# Altium schematic symbol library WCAP-CSSA.SchLib: 19 symbols
Pins are listed as number, name and electrical type; pins without a type are passive.

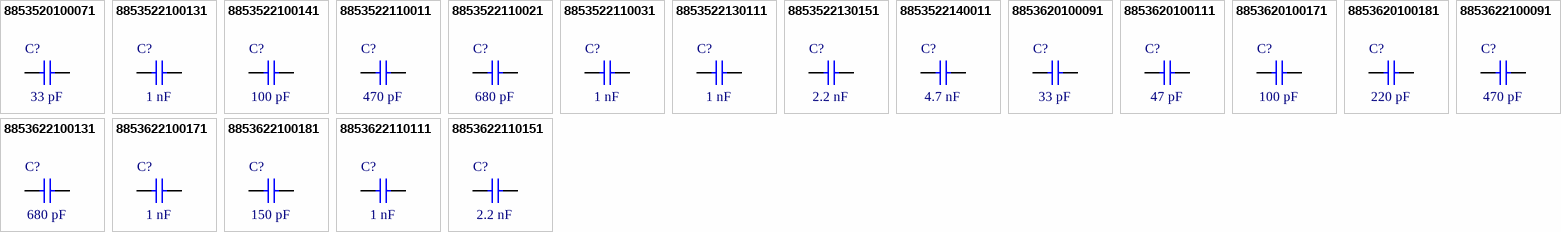
[diagram p0: symbols 8853520100071 to 8853622110151]

## 8853520100071
designator C?, comment 33 pF
WCAP-CSSA Multilayer Ceramic Chip Safety Capacitor, SMT, size 1808, NP0 Class I, 33 pF, 250 V (AC); Manufacturer Part Number: 8853520100071; Manufacturer: Wurth Elektronik; Case/Size Code: 1808; Capacitance Tolerance: ±5%; Dissipation Factor: 0.1%; Impulse Voltage: 5000 V (DC); Insulation Resistance: 100 GΩ; Safety Class: X1 / Y2; Category: Multilayer Ceramic Chip Capacitors; Match Code: WCAP-CSSA; ComponentLink1Description: Website Link; ComponentLink1URL: https://www.we-online.com/redexpert/article/8853520100071?ad; ComponentLink2Description: Datasheet Link; ComponentLink2URL: https://www.we-online.com/redexpert/spec/8853520100071?ad; Mount: Surface Mount; Min Operating Temperature: -55 °C; Max Operating Temperature: 125 °C; Packaging: Tape and Reel; Length: 4.5 mm; Width: 2 mm; Height: 1.4 mm; Capacitance: 33 pF; Ceramic Type: NP0 Class I; Rated Voltage: 250 V (AC)
footprint WCAP-CSSA_1808_8853520100071
simulation model 1808_8853520100071_33pF
pins: 1, 2

## 8853522100131
designator C?, comment 1 nF
WCAP-CSSA Multilayer Ceramic Chip Safety Capacitor, SMT, size 1808, X7R Class II, 1 nF, 250 V (AC); Manufacturer Part Number: 8853522100131; Manufacturer: Wurth Elektronik; Case/Size Code: 1808; Capacitance Tolerance: ±10%; Dissipation Factor: 2.5%; Impulse Voltage: 5000 V (DC); Insulation Resistance: 10 GΩ; Safety Class: X1 / Y2; Category: Multilayer Ceramic Chip Capacitors; Match Code: WCAP-CSSA; ComponentLink1Description: Website Link; ComponentLink1URL: https://www.we-online.com/redexpert/article/8853522100131?ad; ComponentLink2Description: Datasheet Link; ComponentLink2URL: https://www.we-online.com/redexpert/spec/8853522100131?ad; Mount: Surface Mount; Min Operating Temperature: -55 °C; Max Operating Temperature: 125 °C; Packaging: Tape and Reel; Length: 4.5 mm; Width: 2 mm; Height: 2 mm; Capacitance: 1 nF; Ceramic Type: X7R Class II; Rated Voltage: 250 V (AC)
footprint WCAP-CSSA_1808_8853522100131
simulation model 1808_8853522100131_1nF
pins: 1, 2

## 8853522100141
designator C?, comment 100 pF
WCAP-CSSA Multilayer Ceramic Chip Safety Capacitor, SMT, size 1808, X7R Class II, 100 pF, 250 V (AC); Manufacturer Part Number: 8853522100141; Manufacturer: Wurth Elektronik; Case/Size Code: 1808; Capacitance Tolerance: ±10%; Dissipation Factor: 2.5%; Impulse Voltage: 5000 V (DC); Insulation Resistance: 10 GΩ; Safety Class: X1 / Y2; Category: Multilayer Ceramic Chip Capacitors; Match Code: WCAP-CSSA; ComponentLink1Description: Website Link; ComponentLink1URL: https://www.we-online.com/redexpert/article/8853522100141?ad; ComponentLink2Description: Datasheet Link; ComponentLink2URL: https://www.we-online.com/redexpert/spec/8853522100141?ad; Mount: Surface Mount; Min Operating Temperature: -55 °C; Max Operating Temperature: 125 °C; Packaging: Tape and Reel; Length: 4.5 mm; Width: 2 mm; Height: 1.6 mm; Capacitance: 100 pF; Ceramic Type: X7R Class II; Rated Voltage: 250 V (AC)
footprint WCAP-CSSA_1808_8853522100141
pins: 1, 2

## 8853522110011
designator C?, comment 470 pF
WCAP-CSSA Multilayer Ceramic Chip Safety Capacitor, SMT, size 1812, X7R Class II, 470 pF, 250 V (AC); Manufacturer Part Number: 8853522110011; Manufacturer: Wurth Elektronik; Case/Size Code: 1812; Capacitance Tolerance: ±10%; Dissipation Factor: 2.5%; Impulse Voltage: 5000 V (DC); Insulation Resistance: 10 GΩ; Safety Class: X1 / Y2; Category: Multilayer Ceramic Chip Capacitors; Match Code: WCAP-CSSA; ComponentLink1Description: Website Link; ComponentLink1URL: https://www.we-online.com/redexpert/article/8853522110011?ad; ComponentLink2Description: Datasheet Link; ComponentLink2URL: https://www.we-online.com/redexpert/spec/8853522110011?ad; Mount: Surface Mount; Min Operating Temperature: -55 °C; Max Operating Temperature: 125 °C; Packaging: Tape and Reel; Length: 4.5 mm; Width: 3.2 mm; Height: 1.6 mm; Capacitance: 470 pF; Ceramic Type: X7R Class II; Rated Voltage: 250 V (AC)
footprint WCAP-CSSA_1812_8853522110011
simulation model 1812_8853522110011_470pF
pins: 1, 2

## 8853522110021
designator C?, comment 680 pF
WCAP-CSSA Multilayer Ceramic Chip Safety Capacitor, SMT, size 1812, X7R Class II, 680 pF, 250 V (AC); Manufacturer Part Number: 8853522110021; Manufacturer: Wurth Elektronik; Case/Size Code: 1812; Capacitance Tolerance: ±10%; Dissipation Factor: 2.5%; Impulse Voltage: 5000 V (DC); Insulation Resistance: 10 GΩ; Safety Class: X1 / Y2; Category: Multilayer Ceramic Chip Capacitors; Match Code: WCAP-CSSA; ComponentLink1Description: Website Link; ComponentLink1URL: https://www.we-online.com/redexpert/article/8853522110021?ad; ComponentLink2Description: Datasheet Link; ComponentLink2URL: https://www.we-online.com/redexpert/spec/8853522110021?ad; Mount: Surface Mount; Min Operating Temperature: -55 °C; Max Operating Temperature: 125 °C; Packaging: Tape and Reel; Length: 4.5 mm; Width: 3.2 mm; Height: 2 mm; Capacitance: 680 pF; Ceramic Type: X7R Class II; Rated Voltage: 250 V (AC)
footprint WCAP-CSSA_1812_8853522110021
simulation model 1812_8853522110021_680pF
pins: 1, 2

## 8853522110031
designator C?, comment 1 nF
WCAP-CSSA Multilayer Ceramic Chip Safety Capacitor, SMT, size 1812, X7R Class II, 1 nF, 250 V (AC); Manufacturer Part Number: 8853522110031; Manufacturer: Wurth Elektronik; Case/Size Code: 1812; Capacitance Tolerance: ±10%; Dissipation Factor: 2.5%; Impulse Voltage: 5000 V (DC); Insulation Resistance: 10 GΩ; Safety Class: X1 / Y2; Category: Multilayer Ceramic Chip Capacitors; Match Code: WCAP-CSSA; ComponentLink1Description: Website Link; ComponentLink1URL: https://www.we-online.com/redexpert/article/8853522110031?ad; ComponentLink2Description: Datasheet Link; ComponentLink2URL: https://www.we-online.com/redexpert/spec/8853522110031?ad; Mount: Surface Mount; Min Operating Temperature: -55 °C; Max Operating Temperature: 125 °C; Packaging: Tape and Reel; Length: 4.5 mm; Width: 3.2 mm; Height: 2.5 mm; Capacitance: 1 nF; Ceramic Type: X7R Class II; Rated Voltage: 250 V (AC)
footprint WCAP-CSSA_1812_8853522110031
simulation model 1812_8853522110031_1nF
pins: 1, 2

## 8853522130111
designator C?, comment 1 nF
WCAP-CSSA Multilayer Ceramic Chip Safety Capacitor, SMT, size 2211, X7R Class II, 1 nF, 250 V (AC); Manufacturer Part Number: 8853522130111; Manufacturer: Wurth Elektronik; Case/Size Code: 2211; Capacitance Tolerance: ±10%; Dissipation Factor: 2.5%; Impulse Voltage: 5000 V (DC); Insulation Resistance: 10 GΩ; Safety Class: X1 / Y2; Category: Multilayer Ceramic Chip Capacitors; Match Code: WCAP-CSSA; ComponentLink1Description: Website Link; ComponentLink1URL: https://www.we-online.com/redexpert/article/8853522130111?ad; ComponentLink2Description: Datasheet Link; ComponentLink2URL: https://www.we-online.com/redexpert/spec/8853522130111?ad; Mount: Surface Mount; Min Operating Temperature: -55 °C; Max Operating Temperature: 125 °C; Packaging: Tape and Reel; Length: 5.7 mm; Width: 2.8 mm; Height: 2.5 mm; Capacitance: 1 nF; Ceramic Type: X7R Class II; Rated Voltage: 250 V (AC)
footprint WCAP-CSSA_2211_8853522130111
simulation model 2211_8853522130111_1nF
pins: 1, 2

## 8853522130151
designator C?, comment 2.2 nF
WCAP-CSSA Multilayer Ceramic Chip Safety Capacitor, SMT, size 2211, X7R Class II, 2.2 nF, 250 V (AC); Manufacturer Part Number: 8853522130151; Manufacturer: Wurth Elektronik; Case/Size Code: 2211; Capacitance Tolerance: ±10%; Dissipation Factor: 2.5%; Impulse Voltage: 5000 V (DC); Insulation Resistance: 10 GΩ; Safety Class: X1 / Y2; Category: Multilayer Ceramic Chip Capacitors; Match Code: WCAP-CSSA; ComponentLink1Description: Website Link; ComponentLink1URL: https://www.we-online.com/redexpert/article/8853522130151?ad; ComponentLink2Description: Datasheet Link; ComponentLink2URL: https://www.we-online.com/redexpert/spec/8853522130151?ad; Mount: Surface Mount; Min Operating Temperature: -55 °C; Max Operating Temperature: 125 °C; Packaging: Tape and Reel; Length: 5.7 mm; Width: 2.8 mm; Height: 2.5 mm; Capacitance: 2.2 nF; Ceramic Type: X7R Class II; Rated Voltage: 250 V (AC)
footprint WCAP-CSSA_2211_8853522130151
simulation model 2211_8853522130151_2.2nF
pins: 1, 2

## 8853522140011
designator C?, comment 4.7 nF
WCAP-CSSA Multilayer Ceramic Chip Safety Capacitor, SMT, size 2220, X7R Class II, 4.7 nF, 250 V (AC); Manufacturer Part Number: 8853522140011; Manufacturer: Wurth Elektronik; Case/Size Code: 2220; Capacitance Tolerance: ±10%; Dissipation Factor: 2.5%; Impulse Voltage: 5000 V (DC); Insulation Resistance: 10 GΩ; Safety Class: X1 / Y2; Category: Multilayer Ceramic Chip Capacitors; Match Code: WCAP-CSSA; ComponentLink1Description: Website Link; ComponentLink1URL: https://www.we-online.com/redexpert/article/8853522140011?ad; ComponentLink2Description: Datasheet Link; ComponentLink2URL: https://www.we-online.com/redexpert/spec/8853522140011?ad; Mount: Surface Mount; Min Operating Temperature: -55 °C; Max Operating Temperature: 125 °C; Packaging: Tape and Reel; Length: 5.7 mm; Width: 5 mm; Height: 2.5 mm; Capacitance: 4.7 nF; Ceramic Type: X7R Class II; Rated Voltage: 250 V (AC)
footprint WCAP-CSSA_2220_8853522140011
simulation model 2220_8853522140011_4.7nF
pins: 1, 2

## 8853620100091
designator C?, comment 33 pF
WCAP-CSSA Multilayer Ceramic Chip Safety Capacitor, SMT, size 1808, NP0 Class I, 33 pF, 250 V (AC); Manufacturer Part Number: 8853620100091; Manufacturer: Wurth Elektronik; Case/Size Code: 1808; Capacitance Tolerance: ±5%; Dissipation Factor: 0.1%; Impulse Voltage: 2500 V (DC); Insulation Resistance: 100 GΩ; Safety Class: X2; Category: Multilayer Ceramic Chip Capacitors; Match Code: WCAP-CSSA; ComponentLink1Description: Website Link; ComponentLink1URL: https://www.we-online.com/redexpert/article/8853620100091?ad; ComponentLink2Description: Datasheet Link; ComponentLink2URL: https://www.we-online.com/redexpert/spec/8853620100091?ad; Mount: Surface Mount; Min Operating Temperature: -55 °C; Max Operating Temperature: 125 °C; Packaging: Tape and Reel; Length: 4.5 mm; Width: 2 mm; Height: 1.4 mm; Capacitance: 33 pF; Ceramic Type: NP0 Class I; Rated Voltage: 250 V (AC)
footprint WCAP-CSSA_1808_8853620100091
simulation model 1808_8853620100091_33pF
pins: 1, 2

## 8853620100111
designator C?, comment 47 pF
WCAP-CSSA Multilayer Ceramic Chip Safety Capacitor, SMT, size 1808, NP0 Class I, 47 pF, 250 V (AC); Manufacturer Part Number: 8853620100111; Manufacturer: Wurth Elektronik; Case/Size Code: 1808; Capacitance Tolerance: ±5%; Dissipation Factor: 0.1%; Impulse Voltage: 2500 V (DC); Insulation Resistance: 100 GΩ; Safety Class: X2; Category: Multilayer Ceramic Chip Capacitors; Match Code: WCAP-CSSA; ComponentLink1Description: Website Link; ComponentLink1URL: https://www.we-online.com/redexpert/article/8853620100111?ad; ComponentLink2Description: Datasheet Link; ComponentLink2URL: https://www.we-online.com/redexpert/spec/8853620100111?ad; Mount: Surface Mount; Min Operating Temperature: -55 °C; Max Operating Temperature: 125 °C; Packaging: Tape and Reel; Length: 4.5 mm; Width: 2 mm; Height: 1.6 mm; Capacitance: 47 pF; Ceramic Type: NP0 Class I; Rated Voltage: 250 V (AC)
footprint WCAP-CSSA_1808_8853620100111
simulation model 1808_8853620100111_47pF
pins: 1, 2

## 8853620100171
designator C?, comment 100 pF
WCAP-CSSA Multilayer Ceramic Chip Safety Capacitor, SMT, size 1808, NP0 Class I, 100 pF, 250 V (AC); Manufacturer Part Number: 8853620100171; Manufacturer: Wurth Elektronik; Case/Size Code: 1808; Capacitance Tolerance: ±5%; Dissipation Factor: 0.1%; Impulse Voltage: 2500 V (DC); Insulation Resistance: 100 GΩ; Safety Class: X2; Category: Multilayer Ceramic Chip Capacitors; Match Code: WCAP-CSSA; ComponentLink1Description: Website Link; ComponentLink1URL: https://www.we-online.com/redexpert/article/8853620100171?ad; ComponentLink2Description: Datasheet Link; ComponentLink2URL: https://www.we-online.com/redexpert/spec/8853620100171?ad; Mount: Surface Mount; Min Operating Temperature: -55 °C; Max Operating Temperature: 125 °C; Packaging: Tape and Reel; Length: 4.5 mm; Width: 2 mm; Height: 2 mm; Capacitance: 100 pF; Ceramic Type: NP0 Class I; Rated Voltage: 250 V (AC)
footprint WCAP-CSSA_1808_8853620100171
simulation model 1808_8853620100171_100pF
pins: 1, 2

## 8853620100181
designator C?, comment 220 pF
WCAP-CSSA Multilayer Ceramic Chip Safety Capacitor, SMT, size 1808, NP0 Class I, 220 pF, 250 V (AC); Manufacturer Part Number: 8853620100181; Manufacturer: Wurth Elektronik; Case/Size Code: 1808; Capacitance Tolerance: ±5%; Dissipation Factor: 0.1%; Impulse Voltage: 2500 V (DC); Insulation Resistance: 100 GΩ; Safety Class: X2; Category: Multilayer Ceramic Chip Capacitors; Match Code: WCAP-CSSA; ComponentLink1Description: Website Link; ComponentLink1URL: https://www.we-online.com/redexpert/article/8853620100181?ad; ComponentLink2Description: Datasheet Link; ComponentLink2URL: https://www.we-online.com/redexpert/spec/8853620100181?ad; Mount: Surface Mount; Min Operating Temperature: -55 °C; Max Operating Temperature: 125 °C; Packaging: Tape and Reel; Length: 4.5 mm; Width: 2 mm; Height: 2 mm; Capacitance: 220 pF; Ceramic Type: NP0 Class I; Rated Voltage: 250 V (AC)
footprint WCAP-CSSA_1808_8853620100181
simulation model 1808_8853620100181_220pF
pins: 1, 2

## 8853622100091
designator C?, comment 470 pF
WCAP-CSSA Multilayer Ceramic Chip Safety Capacitor, SMT, size 1808, X7R Class II, 470 pF, 250 V (AC); Manufacturer Part Number: 8853622100091; Manufacturer: Wurth Elektronik; Case/Size Code: 1808; Capacitance Tolerance: ±10%; Dissipation Factor: 2.5%; Impulse Voltage: 2500 V (DC); Insulation Resistance: 10 GΩ; Safety Class: X2; Category: Multilayer Ceramic Chip Capacitors; Match Code: WCAP-CSSA; ComponentLink1Description: Website Link; ComponentLink1URL: https://www.we-online.com/redexpert/article/8853622100091?ad; ComponentLink2Description: Datasheet Link; ComponentLink2URL: https://www.we-online.com/redexpert/spec/8853622100091?ad; Mount: Surface Mount; Min Operating Temperature: -55 °C; Max Operating Temperature: 125 °C; Packaging: Tape and Reel; Length: 4.5 mm; Width: 2 mm; Height: 1.6 mm; Capacitance: 470 pF; Ceramic Type: X7R Class II; Rated Voltage: 250 V (AC)
footprint WCAP-CSSA_1808_8853622100091
simulation model 1808_8853622100091_470pF
pins: 1, 2

## 8853622100131
designator C?, comment 680 pF
WCAP-CSSA Multilayer Ceramic Chip Safety Capacitor, SMT, size 1808, X7R Class II, 680 pF, 250 V (AC); Manufacturer Part Number: 8853622100131; Manufacturer: Wurth Elektronik; Case/Size Code: 1808; Capacitance Tolerance: ±10%; Dissipation Factor: 2.5%; Impulse Voltage: 2500 V (DC); Insulation Resistance: 10 GΩ; Safety Class: X2; Category: Multilayer Ceramic Chip Capacitors; Match Code: WCAP-CSSA; ComponentLink1Description: Website Link; ComponentLink1URL: https://www.we-online.com/redexpert/article/8853622100131?ad; ComponentLink2Description: Datasheet Link; ComponentLink2URL: https://www.we-online.com/redexpert/spec/8853622100131?ad; Mount: Surface Mount; Min Operating Temperature: -55 °C; Max Operating Temperature: 125 °C; Packaging: Tape and Reel; Length: 4.5 mm; Width: 2 mm; Height: 1.6 mm; Capacitance: 680 pF; Ceramic Type: X7R Class II; Rated Voltage: 250 V (AC)
footprint WCAP-CSSA_1808_8853622100131
simulation model 1808_8853622100131_680pF
pins: 1, 2

## 8853622100171
designator C?, comment 1 nF
WCAP-CSSA Multilayer Ceramic Chip Safety Capacitor, SMT, size 1808, X7R Class II, 1 nF, 250 V (AC); Manufacturer Part Number: 8853622100171; Manufacturer: Wurth Elektronik; Case/Size Code: 1808; Capacitance Tolerance: ±10%; Dissipation Factor: 2.5%; Impulse Voltage: 2500 V (DC); Insulation Resistance: 10 GΩ; Safety Class: X2; Category: Multilayer Ceramic Chip Capacitors; Match Code: WCAP-CSSA; ComponentLink1Description: Website Link; ComponentLink1URL: https://www.we-online.com/redexpert/article/8853622100171?ad; ComponentLink2Description: Datasheet Link; ComponentLink2URL: https://www.we-online.com/redexpert/spec/8853622100171?ad; Mount: Surface Mount; Min Operating Temperature: -55 °C; Max Operating Temperature: 125 °C; Packaging: Tape and Reel; Length: 4.5 mm; Width: 2 mm; Height: 2 mm; Capacitance: 1 nF; Ceramic Type: X7R Class II; Rated Voltage: 250 V (AC)
footprint WCAP-CSSA_1808_8853622100171
simulation model 1808_8853622100171_1nF
pins: 1, 2

## 8853622100181
designator C?, comment 150 pF
WCAP-CSSA Multilayer Ceramic Chip Safety Capacitor, SMT, size 1808, X7R Class II, 150 pF, 250 V (AC); Manufacturer Part Number: 8853622100181; Manufacturer: Wurth Elektronik; Case/Size Code: 1808; Capacitance Tolerance: ±10%; Dissipation Factor: 2.5%; Impulse Voltage: 2500 V (DC); Insulation Resistance: 10 GΩ; Safety Class: X2; Category: Multilayer Ceramic Chip Capacitors; Match Code: WCAP-CSSA; ComponentLink1Description: Website Link; ComponentLink1URL: https://www.we-online.com/redexpert/article/8853622100181?ad; ComponentLink2Description: Datasheet Link; ComponentLink2URL: https://www.we-online.com/redexpert/spec/8853622100181?ad; Mount: Surface Mount; Min Operating Temperature: -55 °C; Max Operating Temperature: 125 °C; Packaging: Tape and Reel; Length: 4.5 mm; Width: 2 mm; Height: 1.6 mm; Capacitance: 150 pF; Ceramic Type: X7R Class II; Rated Voltage: 250 V (AC)
footprint WCAP-CSSA_1808_8853622100181
simulation model 1808_8853622100181_150pF
pins: 1, 2

## 8853622110111
designator C?, comment 1 nF
WCAP-CSSA Multilayer Ceramic Chip Safety Capacitor, SMT, size 1812, X7R Class II, 1 nF, 250 V (AC); Manufacturer Part Number: 8853622110111; Manufacturer: Wurth Elektronik; Case/Size Code: 1812; Capacitance Tolerance: ±10%; Dissipation Factor: 2.5%; Impulse Voltage: 2500 V (DC); Insulation Resistance: 10 GΩ; Safety Class: X2; Category: Multilayer Ceramic Chip Capacitors; Match Code: WCAP-CSSA; ComponentLink1Description: Website Link; ComponentLink1URL: https://www.we-online.com/redexpert/article/8853622110111?ad; ComponentLink2Description: Datasheet Link; ComponentLink2URL: https://www.we-online.com/redexpert/spec/8853622110111?ad; Mount: Surface Mount; Min Operating Temperature: -55 °C; Max Operating Temperature: 125 °C; Packaging: Tape and Reel; Length: 4.5 mm; Width: 3.2 mm; Height: 1.6 mm; Capacitance: 1 nF; Ceramic Type: X7R Class II; Rated Voltage: 250 V (AC)
footprint WCAP-CSSA_1812_8853622110111
simulation model 1812_8853622110111_1nF
pins: 1, 2

## 8853622110151
designator C?, comment 2.2 nF
WCAP-CSSA Multilayer Ceramic Chip Safety Capacitor, SMT, size 1812, X7R Class II, 2.2 nF, 250 V (AC); Manufacturer Part Number: 8853622110151; Manufacturer: Wurth Elektronik; Case/Size Code: 1812; Capacitance Tolerance: ±10%; Dissipation Factor: 2.5%; Impulse Voltage: 2500 V (DC); Insulation Resistance: 10 GΩ; Safety Class: X2; Category: Multilayer Ceramic Chip Capacitors; Match Code: WCAP-CSSA; ComponentLink1Description: Website Link; ComponentLink1URL: https://www.we-online.com/redexpert/article/8853622110151?ad; ComponentLink2Description: Datasheet Link; ComponentLink2URL: https://www.we-online.com/redexpert/spec/8853622110151?ad; Mount: Surface Mount; Min Operating Temperature: -55 °C; Max Operating Temperature: 125 °C; Packaging: Tape and Reel; Length: 4.5 mm; Width: 3.2 mm; Height: 2.5 mm; Capacitance: 2.2 nF; Ceramic Type: X7R Class II; Rated Voltage: 250 V (AC)
footprint WCAP-CSSA_1812_8853622110151
simulation model 1812_8853622110151_2.2nF
pins: 1, 2